# Altium footprint library CONN-20021121-00034T4LF.PcbLib: 1 footprints
Each footprint in its own frame and in the unit in brackets; x right, y up, seen from the top. Pads: shape width x height; smd on the part's side, far side on the other; paste and mask are expansions set on the pad; w line width, h text height; cw(c..) or ccw(c..) is an arc to the next point about the centre after c.
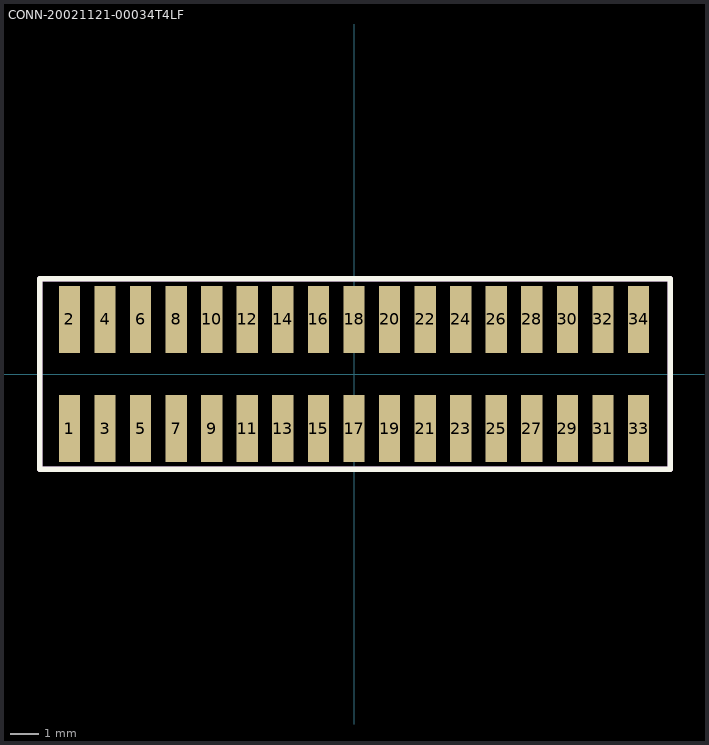
[diagram p0: the footprint, top view; thin cyan lines are the x and y axes]

## CONN-20021121-00034T4LF [mm]
height 4.5
pads (34):
  rect 0.76x2.4 smd mask+0.015: 1(-10.16,-1.95) 2(-10.16,1.95) 3(-8.89,-1.95) 4(-8.89,1.95) 5(-7.62,-1.95) 6(-7.62,1.95) 7(-6.35,-1.95) 8(-6.35,1.95) 9(-5.08,-1.95) 10(-5.08,1.95) 11(-3.81,-1.95) 12(-3.81,1.95) 13(-2.54,-1.95) 14(-2.54,1.95) 15(-1.27,-1.95) 16(-1.27,1.95) 17(0,-1.95) 18(0,1.95) 19(1.27,-1.95) 20(1.27,1.95) 21(2.54,-1.95) 22(2.54,1.95) 23(3.81,-1.95) 24(3.81,1.95) 25(5.08,-1.95) 26(5.08,1.95) 27(6.35,-1.95) 28(6.35,1.95) 29(7.62,-1.95) 30(7.62,1.95) 31(8.89,-1.95) 32(8.89,1.95) 33(10.16,-1.95) 34(10.16,1.95)
Top Overlay:
  lines w0.2: -11.215,-3.4 11.285,-3.4 11.285,3.4 -11.215,3.4 -11.215,-3.4
Top Assembly:
  lines w0.2: -11.215,-3.4 11.285,-3.4 11.285,3.4 -11.215,3.4 -11.215,-3.4
  text "'.Designator'" at -5.715,0 h0.7
3D body "20021121-00034XXLFc.stp": height 4.52, standoff 0.02, extent -10.785,-2.75 10.805,2.75